# Altium schematic symbol library IC-TIMING.SchLib: 2 symbols
Pins are listed as number, name and electrical type; pins without a type are passive.

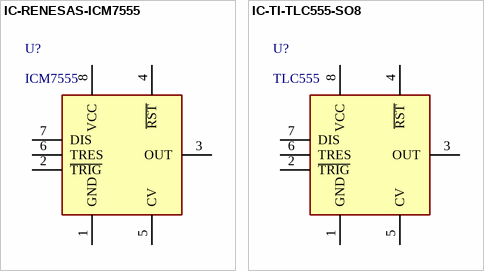
[diagram p0: symbols IC-RENESAS-ICM7555 to IC-TI-TLC555-SO8]

## IC-RENESAS-ICM7555
designator U?, comment ICM7555
pins: 1 GND, 2 ~{TRIG}, 3 OUT, 4 ~{RST}, 5 CV, 6 TRES, 7 DIS, 8 VCC

## IC-TI-TLC555-SO8
designator U?, comment TLC555
IC,TIMER,CMOSE,TI,TLC555,SO8; Manufacturer Part Number 1: TLC555IDR; LCSC: C6987; Manufacturer 1: TI
footprint SO127P600-8N (SO8)
pins: 1 GND, 2 ~{TRIG}, 3 OUT, 4 ~{RST}, 5 CV, 6 TRES, 7 DIS, 8 VCC